# Altium footprint library SMA_EDGE_6.25.PcbLib: 1 footprints
Each footprint in its own frame and in the unit in brackets; x right, y up, seen from the top. Pads: shape width x height; smd on the part's side, far side on the other; paste and mask are expansions set on the pad; w line width, h text height; cw(c..) or ccw(c..) is an arc to the next point about the centre after c.
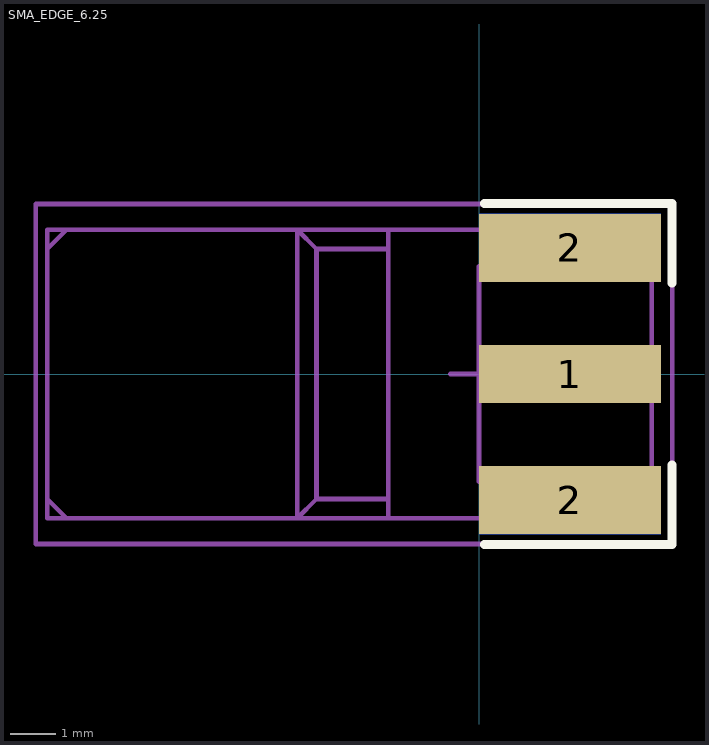
[diagram p0: the footprint, top view; thin cyan lines are the x and y axes]

## SMA_EDGE_6.25 [mm]
pads (5):
  rect 4x1.27 smd paste-5: 1(2,0)
  rect 4x1.5 smd paste-5: 2(2,-2.775) 2(2,2.775)
  rect 4x1.5 smd far side paste-5: 2(2,-2.775) 2(2,2.775)
Top Overlay:
  lines w0.2: 0.125,-3.75 4.25,-3.75 4.25,-2 ; 0.125,3.75 4.25,3.75 4.25,2
Mechanical 13:
  lines w0.1: -9.5,-2.75 -9.075,-3.175 ; -9.5,2.75 -9.075,3.175 ; -2.794,-3.175 2.794,-3.175 ; -2.794,3.175 2.794,3.175 ; -2,-3.175 -2,3.175 ; -2,-2.75 -3.575,-2.75 ; -2,2.75 -3.575,2.75 ; 3.8,-2.375 0,-2.375 0,-0.4 ; 3.8,-0.4 0,-0.4 ; 3.8,0.4 0,0.4 ; 3.8,2.375 0,2.375 0,0.4 ; -3.575,-2.75 -3.575,2.75 ; -3.575,-2.75 -4,-3.175 -4,3.175 -3.575,2.75 ; 0,-0.4 0,0.4 ; -9.5,-3.175 3.8,-3.175 3.8,3.175 -9.5,3.175 -9.5,-3.175
Mechanical 15:
  lines w0.1: -0.635,0 0.635,0 ; 0,-0.635 0,0.635 ; -9.75,-3.74 -9.75,3.74 4.25,3.74 4.25,-3.74 -9.75,-3.74
3D body "User Library-620-SMA-02-112-TGG SMA Female for PCB edge Mount.step": height 3.5, standoff -2.55, extent -9.6,-3 4,3